# Altium schematic symbol library Interface USB.SchLib: 91 symbols (part 12 of 12)
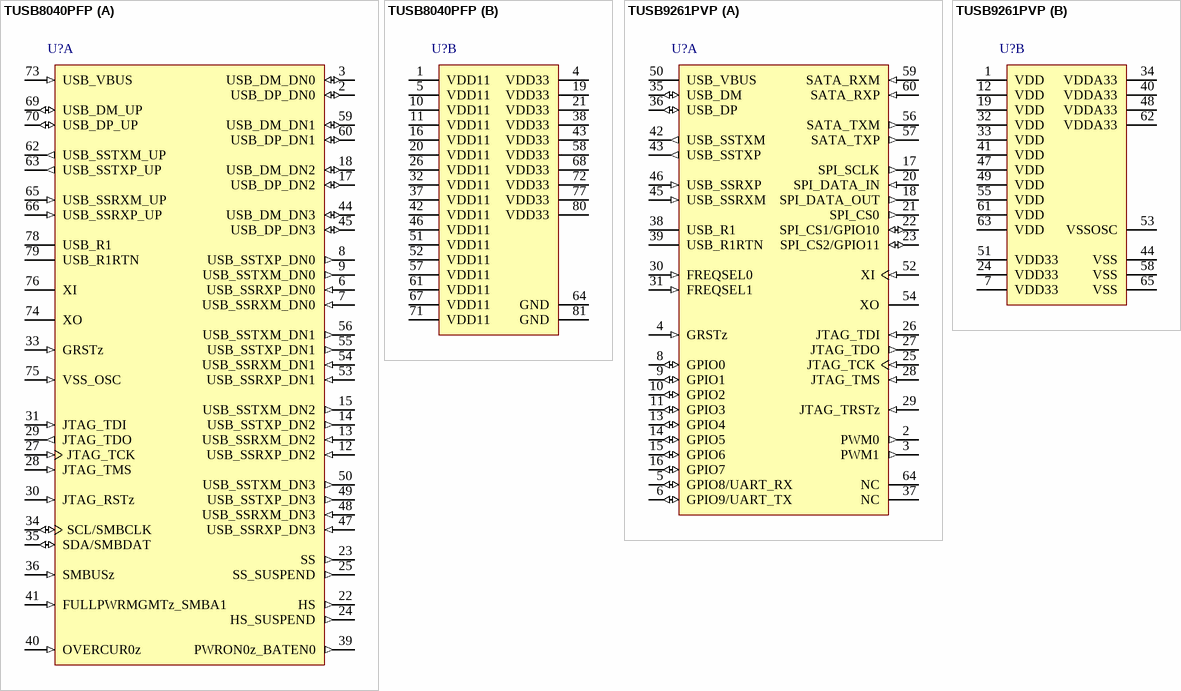
[diagram p19: symbols TUSB8040PFP to TUSB9261PVP]

## TUSB9261PVP
designator U?
75 MIPs, 2nd Generation SuperSpeed USB 3.0 to Serial ATA Bridge, 64 KBytes, ARM Cortex M3, 3.3 / 1.1V, 0 to 70 degC, 64-Pin HTQFP (PVP) , Green (RoHS & no Sb/Br); PartNumber: TUSB9261PVP; Manufacturer: Texas Instruments; SubFamily: USB Peripheral; MCU Speed(Max)(MIPs): 75; Number of Endpoints IN: 5; Supply Voltage(s)(V): 3.3, 1.1; GPIO Pins(#): 12; Bulk Transfer: True; MCU Code Space(KBytes): 64; DatasheetVersion: SLLSE67C; PackageVersion: revB, Aug-2003; PackageReference: PVP64-3610X3610TP; PackageDescription: 64-Pin PowerPAD Plastic Quad FlatPack, 7 x 7 mm Body, 0.4 mm Pitch; Mounting Technology: Surface Mount; Eco-Plan: Green (RoHS & no Sb/Br); Number of Endpoints OUT: 5; Application Interface: Serial ATA; USB Speed: SuperSpeed; Integrated MCU Architecture: ARM Cortex M3; Control Transfer: True; DMA: True; Interrupt Transfer: True; Remote Wakeup: True; Code_JEDEC: MS-026; ComponentLink1Description: Datasheet; ComponentLink1URL: http://www.ti.com/general/docs/lit/getliterature.tsp?genericPartNumber=TUSB9261&fileType=pdf; ComponentLink2Description: Package Specification; ComponentLink2URL: http://www.ti.com/litv/pdf/mpqf055a
footprint PVP64-3610X3610TP_N (Thin QFP, 64-Leads, Body 7x7mm, Pitch 0.4mm, IPC Medium Density)
footprint PVP64-3610X3610TP_L (Thin QFP, 64-Leads, Body 7x7mm, Pitch 0.4mm, IPC High Density)
footprint PVP64-3610X3610TP_M (Thin QFP, 64-Leads, Body 7x7mm, Pitch 0.4mm, IPC Low Density)
part A pins: 2 PWM0 (out) "Pulse Width Modulation (PWM). Can be used to drive status LED's.", 3 PWM1 (out) "Pulse Width Modulation (PWM). Can be used to drive status LED's.", 4 GRSTz (in) "Global power reset. This reset brings all of the TUSB9261 internal registers to their default states. When GRSTz is asserted, the device is completely nonfunctional.", 5 GPIO8/UART_RX (io) "GPIO/UART receiver. This terminal can be configured as a GPIO or as the receiver for a UART channel. This pin defaults to a general purpose output.", 6 GPIO9/UART_TX (io) "GPIO/UART transmitter. This terminal can be configured as a GPIO or as the transmitter for a UART channel. This pin defaults to a general purpose output.", 8 GPIO0 (io) "Configurable as general purpose input/outputs", 9 GPIO1 (io) "Configurable as general purpose input/outputs", 10 GPIO2 (io) "Configurable as general purpose input/outputs", 11 GPIO3 (io) "Configurable as general purpose input/outputs", 13 GPIO4 (io) "Configurable as general purpose input/outputs", 14 GPIO5 (io) "Configurable as general purpose input/outputs", 15 GPIO6 (io) "Configurable as general purpose input/outputs", 16 GPIO7 (io) "Configurable as general purpose input/outputs", 17 SPI_SCLK (out) "SPI clock", 18 SPI_DATA_OUT (out) "SPI master data out", 20 SPI_DATA_IN (in) "SPI master data in", 21 SPI_CS0 (out) "Primary SPI chip select for Flash RAM", 22 SPI_CS1/GPIO10 (io) "SPI chip select for additional peripherals. When not used for SPI chip select this pin may be used as general purpose I/O.", 23 SPI_CS2/GPIO11 (io) "SPI chip select for additional peripherals. When not used for SPI chip select this pin may be used as general purpose I/O.", 25 JTAG_TCK (in) "JTAG test clock", 26 JTAG_TDI (in) "JTAG test data in", 27 JTAG_TDO (out) "JTAG test data out", 28 JTAG_TMS (in) "JTAG test mode select", 29 JTAG_TRSTz (in) "JTAG test reset", 30 FREQSEL0 (in) "Frequency select. These terminals indicate the oscillator input frequency and are used to configure the correct PLL multiplier.", 31 FREQSEL1 (in) "Frequency select. These terminals indicate the oscillator input frequency and are used to configure the correct PLL multiplier.", 35 USB_DM (io) "USB High-speed differential transceiver (negative)", 36 USB_DP (io) "USB High-speed differential transceiver (positive)", 37 NC "No connect, leave floating", 38 USB_R1 "Precision resistor reference. A 10-k ohm +/-1% resistor should be connected between R1 and R1RTN.", 39 USB_R1RTN "Precision resistor reference return", 42 USB_SSTXM (out) "SuperSpeed USB transmitter differential pair (negative)", 43 USB_SSTXP (out) "SuperSpeed USB transmitter differential pair (positive)", 45 USB_SSRXM (in) "SuperSpeed USB receiver differential pair (negative)", 46 USB_SSRXP (in) "SuperSpeed USB receiver differential pair (positive)", 50 USB_VBUS (power) "USB bus power", 52 XI (in) "Crystal input. This terminal is the crystal input for the internal oscillator. The input may alternately be driven by the output of an external oscillator. When using a crystal a 1-M ohm feedback resistor is required between X1 and XO.", 54 XO "Crystal output. This terminal is the crystal output for the internal oscillator. If XI is driven by an external oscillator this pin may be left unconnected. When using a crystal a 1-M ohm feedback resistor is required between X1 and XO.", 56 SATA_TXM (out) "Serial ATA transmitter differential pair (negative)", 57 SATA_TXP (out) "Serial ATA transmitter differential pair (positive)", 59 SATA_RXM (in) "Serial ATA receiver differential pair (negative)", 60 SATA_RXP (in) "Serial ATA receiver differential pair (positive)", 64 NC "No connect, leave floating"
part B pins: 1 VDD (power) "1.1-V power rail", 7 VDD33 (power) "3.3-V power rail", 12 VDD (power) "1.1-V power rail", 19 VDD (power) "1.1-V power rail", 24 VDD33 (power) "3.3-V power rail", 32 VDD (power) "1.1-V power rail", 33 VDD (power) "1.1-V power rail", 34 VDDA33 (power) "3.3-V analog power rail", 40 VDDA33 (power) "3.3-V analog power rail", 41 VDD (power) "1.1-V power rail", 44 VSS (power) "Ground", 47 VDD (power) "1.1-V power rail", 48 VDDA33 (power) "3.3-V analog power rail", 49 VDD (power) "1.1-V power rail", 51 VDD33 (power) "3.3-V power rail", 53 VSSOSC (power) "Oscillator ground. If using a crystal, this should not be connected to PCB ground plane. If using an oscillator, this should be connected to PCB ground. See the Clock Source Requirements section for more details.", 55 VDD (power) "1.1-V power rail", 58 VSS (power) "Ground", 61 VDD (power) "1.1-V power rail", 62 VDDA33 (power) "3.3-V analog power rail", 63 VDD (power) "1.1-V power rail", 65 VSS (power) "Ground - Thermal Pad"